# Altium schematic symbol library AX_Altium_v2.3.SchLib: 297 symbols (part 1 of 3)
Pins are listed as number, name and electrical type; pins without a type are passive.

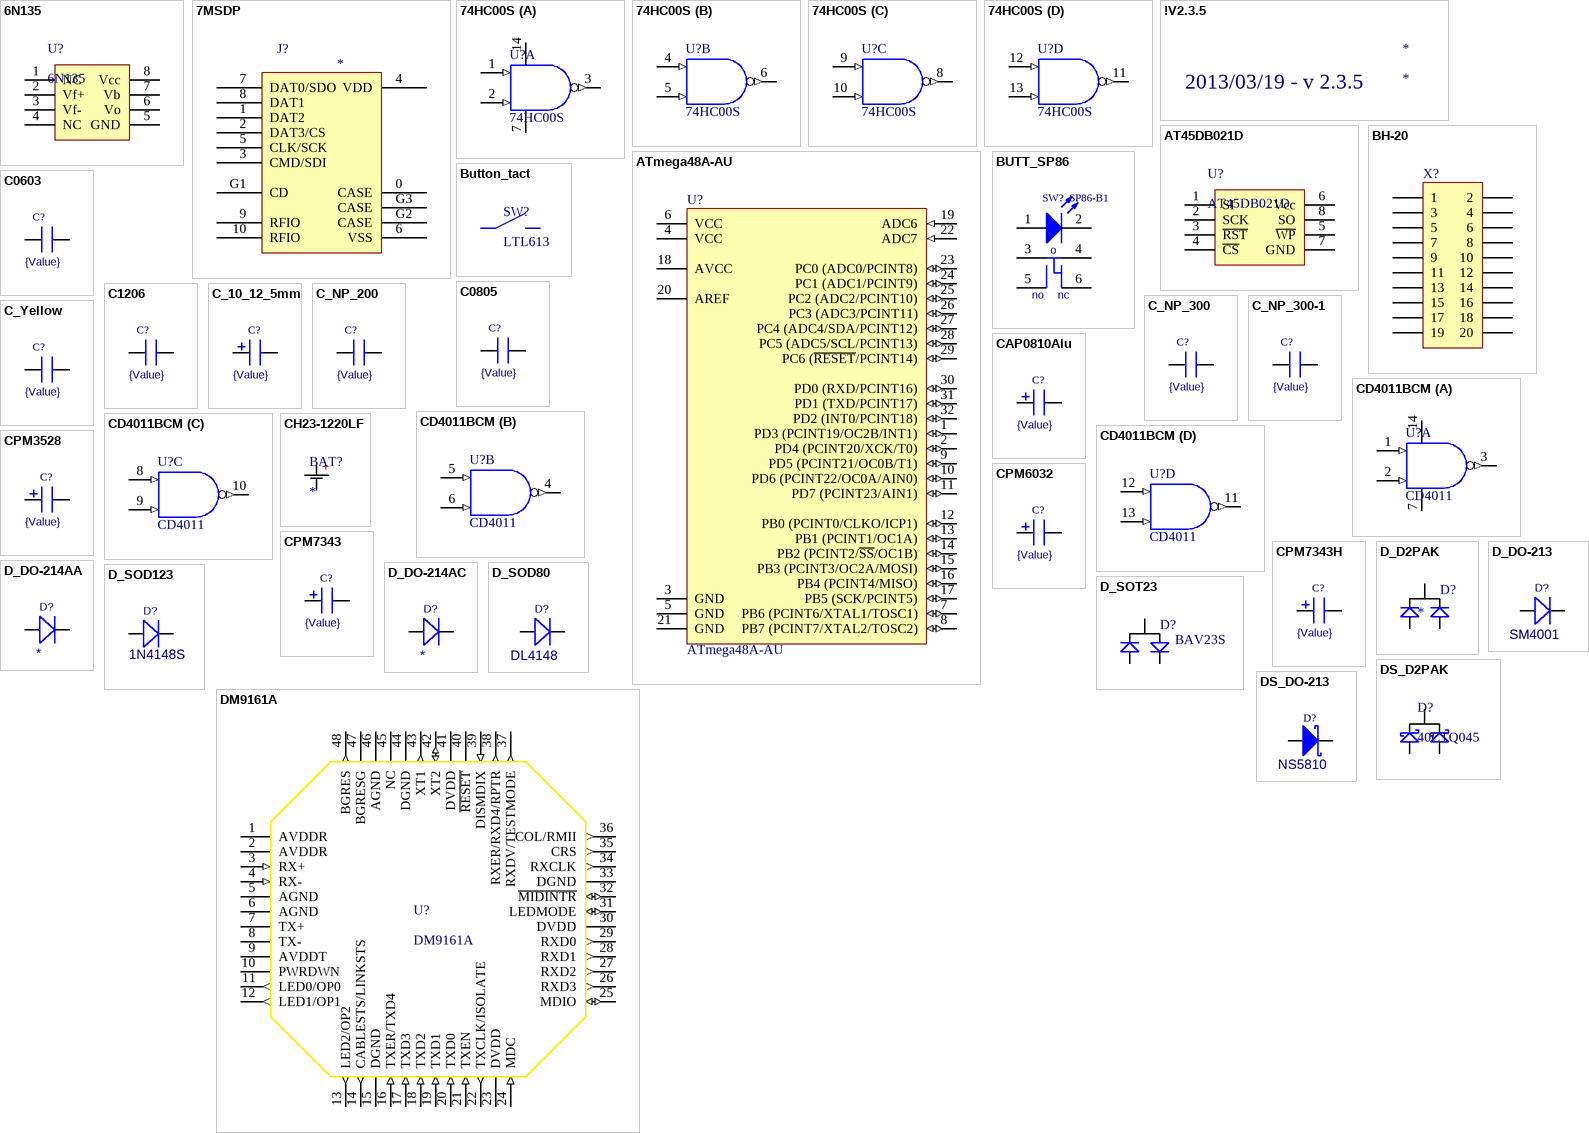
[diagram p0: symbols 6N135 to DS_DO-213]

## 6N135
designator U?
Optron
footprint DIP-8
pins: 1 NC, 2 Vf+ "Led+", 3 Vf- "LED-", 4 NC, 5 GND, 6 Vo "Collector", 7 Vb "Base", 8 Vcc

## 7MSDP
designator J?
SD-card slot
footprint 7MSDP (SD slot)
pins: 0 CASE, 1 DAT2, 2 DAT3/CS, 3 CMD/SDI, 4 VDD, 5 CLK/SCK, 6 VSS, 7 DAT0/SDO, 8 DAT1, 9 RFIO, 10 RFIO, G1 CD, G2 CASE, G3 CASE

## 74HC00S
designator U?
Quadruple 2-Input Positive-NAND Gate; Published: 8-Jun-2000; LatestRevisionDate: 13-Apr-2006; LatestRevisionNote: IPC-7351 Footprint Added.; DatasheetVersion: May-1997; PackageVersion: Jan-1998; PackageReference: D014; Publisher: Altium Limited; PackageDescription: 14-Pin Small Outline Integrated Circuit 1.27 mm Pitch; Code_IPC: SOIC127P600-14; ComponentLink1Description: Manufacturer Link; ComponentLink1URL: http://www.ti.com/; ComponentLink2Description: Datasheet; ComponentLink2URL: http://www-s.ti.com/sc/ds/sn74hc00.pdf
footprint SO-14 (14-Pin Small Outline Integrated Circuit 1.27 mm Pitch, IPC Medium Density)
footprint SO-14_L (14-Pin Small Outline Integrated Circuit 1.27 mm Pitch, IPC High Density)
footprint SO-14_M (14-Pin Small Outline Integrated Circuit 1.27 mm Pitch, IPC Low Density)
signal-integrity model SN74HC00D
part A pins: 1 A (in), 2 B (in), 3 Y (out), 7 GND (power), 14 VCC (power)
part B pins: 4 A (in), 5 B (in), 6 Y (out)
part C pins: 8 Y (out), 9 A (in), 10 B (in)
part D pins: 11 Y (out), 12 A (in), 13 B (in)

## !V2.3.5
designator *
text: 2013/03/19 - v 2.3.5

## AT45DB021D
designator U?
2Mbit memory IC
footprint SO-8 (SOIC, 8-Leads, Body 4.9x3.9mm, Pitch 1.27mm, IPC Medium Density)
pins: 1 SI "Serial Input", 2 SCK "Serial clock", 3 ~{RST} "Reset", 4 ~{CS} "Chip select", 5 ~{WP} "Write protect", 6 Vcc, 7 GND, 8 SO "Serial output"

## ATmega48A-AU
designator U?
8-bit AVR Microcontroller, 4KB Flash, 256 Bytes EEPROM, 512 Bytes SRAM, 32-pin TQFP, Industrial Grade (-40°C to 85°C); Published: 1-Apr-2010; DatasheetVersion: revA, Jan-2010; PackageVersion: revB, Oct-2001; PackageReference: 32A; Publisher: Altium Limited; PackageDescription: 32-Lead, 7x7x1.0 mm Body, 0.8mm Lead Pitch, Thin Profile Plastic Quad Flat Package (TQFP); Supplier 1: Digi-Key; Supplier Part Number 1: ATMEGA48A-AU-ND; Supplier 2: Mouser; Supplier Part Number 2: 556-ATMEGA48A-AU; Code_JEDEC: MS-026-ABA; ComponentLink1Description: Manufacturer Link; ComponentLink1URL: http://www.atmel.com/products/avr/default.asp?; ComponentLink2Description: ATmega48A/48PA/88A/88PA/168A/168PA/328/328P Datasheet; ComponentLink2URL: http://www.atmel.com/dyn/resources/prod_documents/8271.pdf; ComponentLink3Description: ATmega48A/48PA/88A/88PA/168A/168PA/328/328P Summary; ComponentLink3URL: http://www.atmel.com/dyn/resources/prod_documents/8271S.pdf; ComponentLink4Description: Atmel.com Home; ComponentLink4URL: http://www.atmel.com
footprint 32A (Thin QFP, 32-Leads, Body 7x7mm, Pitch 0.8mm, IPC Medium Density)
footprint 32A_L (Thin QFP, 32-Leads, Body 7x7mm, Pitch 0.8mm, IPC High Density)
footprint 32A_M (Thin QFP, 32-Leads, Body 7x7mm, Pitch 0.8mm, IPC Low Density)
pins: 1 PD3 (PCINT19/OC2B/INT1) (io), 2 PD4 (PCINT20/XCK/T0) (io), 3 GND (power), 4 VCC (power), 5 GND (power), 6 VCC (power), 7 PB6 (PCINT6/XTAL1/TOSC1) (io), 8 PB7 (PCINT7/XTAL2/TOSC2) (io), 9 PD5 (PCINT21/OC0B/T1) (io), 10 PD6 (PCINT22/OC0A/AIN0) (io), 11 PD7 (PCINT23/AIN1) (io), 12 PB0 (PCINT0/CLKO/ICP1) (io), 13 PB1 (PCINT1/OC1A) (io), 14 PB2 (PCINT2/~{SS}/OC1B) (io), 15 PB3 (PCINT3/OC2A/MOSI) (io), 16 PB4 (PCINT4/MISO) (io), 17 PB5 (SCK/PCINT5) (io), 18 AVCC (power), 19 ADC6 (in), 20 AREF, 21 GND (power), 22 ADC7 (in), 23 PC0 (ADC0/PCINT8) (io), 24 PC1 (ADC1/PCINT9) (io), 25 PC2 (ADC2/PCINT10) (io), 26 PC3 (ADC3/PCINT11) (io), 27 PC4 (ADC4/SDA/PCINT12) (io), 28 PC5 (ADC5/SCL/PCINT13) (io), 29 PC6 (~{RESET}/PCINT14) (io), 30 PD0 (RXD/PCINT16) (io), 31 PD1 (TXD/PCINT17) (io), 32 PD2 (INT0/PCINT18) (io)

## BH-20
designator X?, comment IDC-20MS(BH-20)  (value not drawn)
Header, 10-Pin, Dual row; LatestRevisionDate: 17-Jul-2002; LatestRevisionNote: Re-released for DXP Platform.; Publisher: Altium Limited
footprint BH-20 (Connector; Header; 10x2 Position)
pins: 1, 2, 3, 4, 5, 6, 7, 8, 9, 10, 11, 12, 13, 14, 15, 16, 17, 18, 19, 20

## BUTT_SP86
designator SW?, comment SP86-B1
Button
footprint BUTT_SP86
pins: 1, 2, 3, 4, 5, 6
text: o; no; nc

## Button_tact
designator SW?, comment LTL613
Tact button switch
footprint LTL613
pins: 0, 1

## C0603
designator C?, comment {Value}
Capacitor; Value: {Value}
footprint C_0603 (Chip Capacitor; Body 1.6 x 0.8 mm (LxW typ))
pins: 1, 2

## C0805
designator C?, comment {Value}
Capacitor; Value: {Value}
footprint C_0805
pins: 1, 2

## C1206
designator C?, comment {Value}
Capacitor; Value: {Value}
footprint C_1206
pins: 1, 2

## C_10_12_5mm
designator C?, comment {Value}
Capacitor; Value: {Value}
footprint CAP470X25V
pins: 1, 2

## C_NP_200
designator C?  value {Value}  (hidden comment: C_NP_200)
footprint Cap_HV 5
pins: 1, 2

## C_NP_300
designator C?  value {Value}  (hidden comment: C_NP_300)
footprint Cap_HV 10
pins: 1, 2

## C_NP_300-1
designator C?  value {Value}  (hidden comment: C_NP_300-1)
C_NP_300_NORM
footprint Cap_HV 3kV norm
pins: 1, 2

## C_Yellow
designator C?, comment {Value}
Funny yellow capacitor distributed with transformer; Value: {Value}
footprint Cap_yellow
pins: 0, 1

## CAP0810Alu
designator C?, comment {Value}
Capacitor; Value: {Value}
footprint Cap 0810 (Aluminum SMT 8.6x8.6x10mm cap)
pins: 1, 2

## CD4011BCM
designator U?, comment CD4011
Quad 2-Input NAND Buffered B series Gate, 14-Pin SOIC; IC_Technology: C; Published: 17-Jul-2002; LatestRevisionDate: 13-Apr-2006; LatestRevisionNote: IPC-7351 Footprint Added.; DatasheetVersion: Jan-1999; PackageVersion: 2000; PackageReference: M14A; Publisher: Altium Limited; PackageDescription: 14-Pin Small Outline Integrated Circuit 1.27 mm Pitch; Code_IPC: SOIC127P600-14; ComponentLink1Description: Manufacturer Link; ComponentLink1URL: http://www.fairchildsemi.com/; ComponentLink2Description: Datasheet; ComponentLink2URL: http://www.fairchildsemi.com/ds/CD%2FCD4001BC.pdf
footprint SO-14 (14-Pin Small Outline Integrated Circuit 1.27 mm Pitch, IPC Medium Density)
footprint SO-14_L (14-Pin Small Outline Integrated Circuit 1.27 mm Pitch, IPC High Density)
footprint SO-14_M (14-Pin Small Outline Integrated Circuit 1.27 mm Pitch, IPC Low Density)
part A pins: 1 A (in), 2 B (in), 3 J (out), 7 GND (power), 14 VDD (power)
part B pins: 4 J (out), 5 A (in), 6 B (in)
part C pins: 8 A (in), 9 F (in), 10 J (out)
part D pins: 11 J (out), 12 A (in), 13 B (in)

## CH23-1220LF
designator BAT?
Battery holder
footprint CH23-1220LF (1220 Battary holder)
pins: 0, 1

## CPM3528
designator C?, comment {Value}
Capacitor; Value: {Value}
footprint CPM3528
pins: 1, 2

## CPM6032
designator C?, comment {Value}
Capacitor; Value: {Value}
footprint CPM6032
pins: 1, 2

## CPM7343
designator C?, comment {Value}
Capacitor; Value: {Value}
footprint CPM7343
pins: 1, 2

## CPM7343H
designator C?, comment {Value}
Capacitor; Value: {Value}
footprint CPM7343H
pins: 1, 2

## D_D2PAK
designator D?
Diode
footprint D2PAK
pins: 1, 2, 3

## D_DO-213
designator D?, comment SM4001
Diode
footprint DIODE_DO-213AB
pins: 1 A, 2 K

## D_DO-214AA
designator D?
Diode
footprint DO-214AA
pins: 1 A, 2 K

## D_DO-214AC
designator D?
Diode
footprint DO-214AC
pins: 1 A, 2 K

## D_SOD80
designator D?, comment DL4148
Diode
footprint SOD80
pins: 1 A, 2 K

## D_SOD123
designator D?, comment 1N4148S
Diode
footprint SOD-123 (SOD-123; 2 Leads; Body 2.7 x 1.6 mm, (LxW))
pins: 1 A, 2 K

## D_SOT23
designator D?, comment BAV23S
Schematic for BAV23S diode
footprint SOT23
pins: 1, 2, 3

## DM9161A
designator U?
footprint TQFP48
pins: 1 AVDDR, 2 AVDDR, 3 RX+ (in), 4 RX- (in), 5 AGND, 6 AGND, 7 TX+, 8 TX-, 9 AVDDT, 10 PWRDWN, 11 LED0/OP0 (out), 12 LED1/OP1 (out), 13 LED2/OP2 (out), 14 CABLESTS/LINKSTS (out), 15 DGND, 16 TXER/TXD4 (in), 17 TXD3 (in), 18 TXD2 (in), 19 TXD1 (in), 20 TXD0 (in), 21 TXEN (in), 22 TXCLK/ISOLATE (out), 23 DVDD, 24 MDC (in), 25 MDIO (io), 26 RXD3 (out), 27 RXD2 (out), 28 RXD1 (out), 29 RXD0 (out), 30 DVDD, 31 LEDMODE (io), 32 ~{MIDINTR} (io), 33 DGND, 34 RXCLK (out), 35 CRS (out), 36 COL/RMII (out), 37 RXDV/TESTMODE (out), 38 RXER/RXD4/RPTR (out), 39 DISMDIX (in), 40 ~{RESET}, 41 DVDD, 42 XT2 (io), 43 XT1 (out), 44 DGND, 45 NC, 46 AGND, 47 BGRESG, 48 BGRES (out)

## DS_D2PAK
designator D?, comment 40CTQ045
Diode
footprint D2PAK
pins: 1, 2, 3

## DS_DO-213
designator D?, comment NS5810
Schottky Diode
footprint DIODE_DO-213AB
pins: 1 A, 2 K

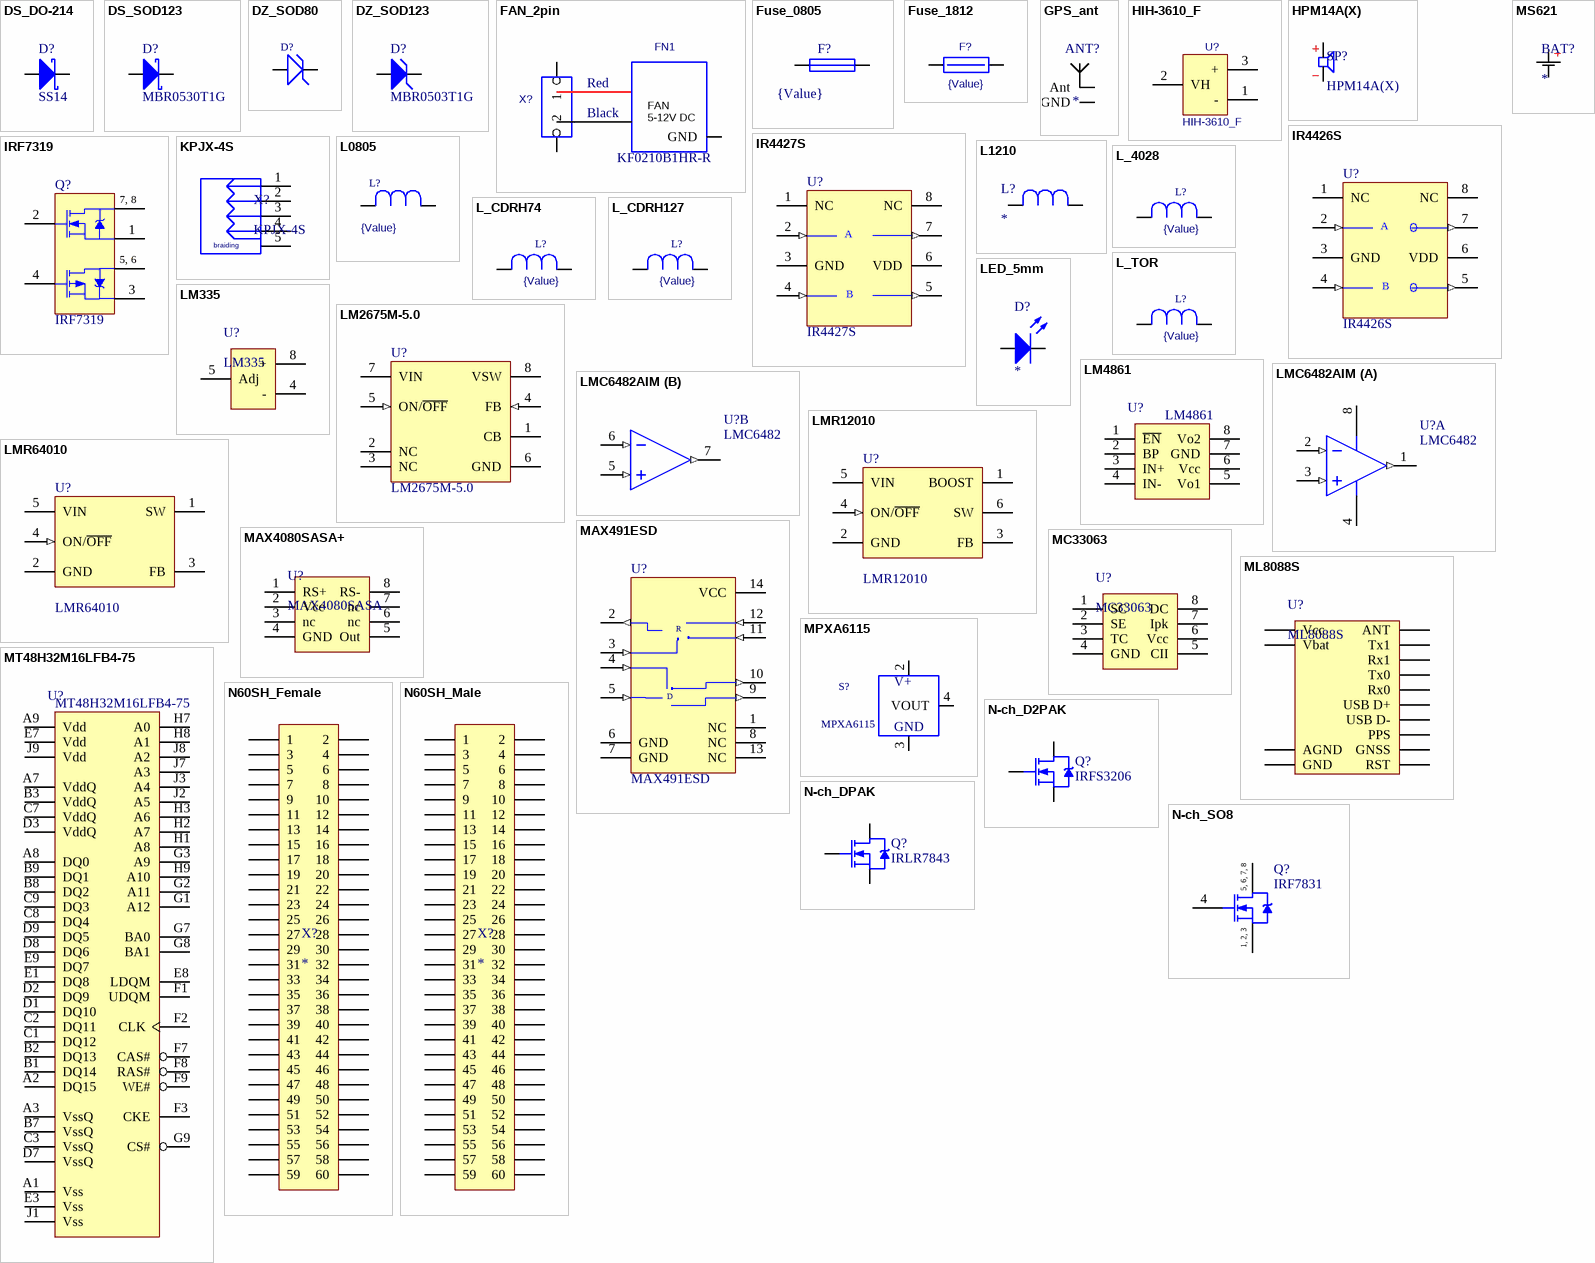
[diagram p1: symbols DS_DO-214 to N-ch_SO8]

## DS_DO-214
designator D?, comment SS14
Schottky Diode
footprint DO-214AC
pins: 1 A, 2 K

## DS_SOD123
designator D?, comment MBR0530T1G
Schottky Diode
footprint SOD-123 (SOD-123; 2 Leads; Body 2.7 x 1.6 mm, (LxW))
pins: 1 A, 2 K

## DZ_SOD80
designator D?, comment {Value}  (value not drawn)
Zener Diode
footprint SOD80C
pins: 1 A, 2 K

## DZ_SOD123
designator D?, comment MBR0503T1G
Surface Mount Zener Diode; Published: 8-Jun-2000; LatestRevisionDate: 17-Jul-2002; LatestRevisionNote: Re-released for DXP Platform.; DatasheetDocument: REV. L-2; PackageReference: SOD-123; Publisher: Altium Limited; ComponentLink1Description: Manufacturer Link; ComponentLink1URL: http://www.vishay.com/
footprint SOD-123 (SOD-123; 2 Leads; Body 2.7 x 1.6 mm, (LxW))
signal-integrity model BZT52C10
pins: 1 A, 2 K

## FAN_2pin
designator X?, comment KF0210B1HR-R
Fan; Value: KF0210B1HR-R
footprint KF0210B1HR-R (Fan KF0210B1HR-R)
footprint KF0210B1HR-R-63 (Fan KF0210B1HR-R sita)
pins: 0 GND, 1, 2
text: FN1; Red; Black; FAN / 5-12V DC

## Fuse_0805
designator F?, comment {Value}
Fuse; Value: {Value}
footprint Fuse_0805
pins: 1, 2

## Fuse_1812
designator F?, comment {Value}
Fuse; Value: {Value}
footprint FUSE_1812
pins: 1, 2

## GPS_ant
designator ANT?
Amt02 GPS antenna
footprint AMT02
pins: 1 Ant, 2 GND

## HIH-3610_F
designator U?
footprint TO-92SF
pins: 1 - "GND", 2 VH, 3 + "Vcc"

## HPM14A(X)
designator SP?
Speaker with (AX)/without (A) frequency grnerator
footprint Beeper_14x7.5
pins: 1 +, 2 -

## IR4426S
designator U?
Dual High-Speed 1.5A MOSFET Driver; Published: 16-Jan-2001; LatestRevisionDate: 13-Apr-2006; LatestRevisionNote: IPC-7351 Footprint Added.; DatasheetVersion: Mar-1993; PackageReference: NSO8; Publisher: Altium Limited; PackageDescription: 8-Pin Small Outline Integrated Circuit 1.27 mm Pitch; Code_JEDEC: MS-012-AA; Code_IPC: SOIC127P600-8; ComponentLink1Description: Manufacturer Link; ComponentLink1URL: http://www.maxim-ic.com/; ComponentLink2Description: Datasheet; ComponentLink2URL: http://pdfserv.maxim-ic.com/en/ds/MAX4426-MAX4428.pdf
footprint SO-8 (SOIC, 8-Leads, Body 4.9x3.9mm, Pitch 1.27mm, IPC Medium Density)
footprint SO-8_L (SOIC, 8-Leads, Body 4.9x3.9mm, Pitch 1.27mm, IPC High Density)
footprint SO-8_M (SOIC, 8-Leads, Body 4.9x3.9mm, Pitch 1.27mm, IPC Low Density)
pins: 1 NC, 2 INA (in), 3 GND (power), 4 INB (in), 5 ~{OUTB} (out), 6 VDD (power), 7 ~{OUTA} (out), 8 NC
text: A; B

## IR4427S
designator U?
Dual High-Speed 1.5A MOSFET Driver; Published: 16-Jan-2001; LatestRevisionDate: 13-Apr-2006; LatestRevisionNote: IPC-7351 Footprint Added.; DatasheetVersion: Mar-1993; PackageReference: NSO8; Publisher: Altium Limited; PackageDescription: 8-Pin Small Outline Integrated Circuit 1.27 mm Pitch; Code_JEDEC: MS-012-AA; Code_IPC: SOIC127P600-8; ComponentLink1Description: Manufacturer Link; ComponentLink1URL: http://www.maxim-ic.com/; ComponentLink2Description: Datasheet; ComponentLink2URL: http://pdfserv.maxim-ic.com/en/ds/MAX4426-MAX4428.pdf
footprint SO-8 (SOIC, 8-Leads, Body 4.9x3.9mm, Pitch 1.27mm, IPC Medium Density)
footprint SO-8_L (SOIC, 8-Leads, Body 4.9x3.9mm, Pitch 1.27mm, IPC High Density)
footprint SO-8_M (SOIC, 8-Leads, Body 4.9x3.9mm, Pitch 1.27mm, IPC Low Density)
pins: 1 NC, 2 INA (in), 3 GND (power), 4 INB (in), 5 OUTB (out), 6 VDD (power), 7 OUTA (out), 8 NC
text: A; B

## IRF7319
designator Q?
HEXFET Power MOSFET; Published: 8-Jun-2000; LatestRevisionDate: 13-Apr-2006; LatestRevisionNote: IPC-7351 Footprint Added.; DatasheetVersion: Sep-1997; PackageVersion: Feb-2001; PackageReference: SO-8; Publisher: Altium Limited; PackageDescription: 8-Pin Plastic Small Outline Integrated Circuit 1.27 mm Pitch; Code_JEDEC: MS-012-AA; Code_IPC: SOIC127P600-8; ComponentLink1Description: Manufacturer Link; ComponentLink1URL: http://www.irf.com/; ComponentLink2Description: Datasheet; ComponentLink2URL: http://www.irf.com/product-info/datasheets/data/IRFN140.pdf
footprint SO-8 (SOIC, 8-Leads, Body 4.9x3.9mm, Pitch 1.27mm, IPC Medium Density)
footprint SO-8_L (SOIC, 8-Leads, Body 4.9x3.9mm, Pitch 1.27mm, IPC High Density)
footprint SO-8_M (SOIC, 8-Leads, Body 4.9x3.9mm, Pitch 1.27mm, IPC Low Density)
pins: 1 S1, 2 G1, 3 S2, 4 G2, 5 D2, 6 D2, 7 D1, 8 D1
text: 7, 8; 5, 6

## KPJX-4S
designator X?
Power connector
footprint KPJX-4S
pins: 1, 2, 3, 4, 5
text: braiding

## L0805
designator L?, comment {Value}
Inductor; Value: {Value}
footprint L_0805 (Inductor Pattern)
pins: 1, 2

## L1210
designator L?
Inductor
footprint L_1210 (Chip Inductor, 2-Leads, Body 3,1x2,5mm, IPC Medium Density)
pins: 1, 2

## L_4028
designator L?, comment {Value}
Inductor; Value: {Value}
footprint L4028
pins: 1, 2

## L_CDRH74
designator L?, comment {Value}
Inductor; Value: {Value}
footprint CDRH74
pins: 1, 2

## L_CDRH127
designator L?, comment {Value}
Inductor; Value: {Value}
footprint CDRH127
pins: 1, 2

## L_TOR
designator L?, comment {Value}
Inductor; Value: {Value}
footprint L_TOR
pins: 1, 2

## LED_5mm
designator D?
Typical INFRARED GaAs LED; Value: *; Color: *
footprint LED_5mm
footprint LED_5mm_long
pins: 1 A, 2 K

## LM335
designator U?
Temperature sensor
footprint SO-8 (SOIC, 8-Leads, Body 4.9x3.9mm, Pitch 1.27mm, IPC Medium Density)
pins: 4 - "GND", 5 Adj, 8 + "Vcc"

## LM2675M-5.0
designator U?
SIMPLE SWITCHER® Power Converter High Efficiency 1A Step-Down Voltage Regulator, 8-pin Narrow SOIC; Manufacturer: National Semiconductor; PackageTopMarking: NSZXTT*2675*M5.0; PowerWise: N; Published: 4-Dec-2008; DatasheetVersion: Jun-2005; PackageVersion: revM, May-2009; PackageReference: M08A; Publisher: Altium Limited; PackageDescription: SOIC Narrow, 4.9 x 3.9 x 1.45mm, 8 Lead, 1.27mm Pitch; Supplier 1: Farnell; Supplier Part Number 1: 9489746; PartNumber: LM2675M-5.0; RoHS: N; PinCount: 8; CompType: Switcher; Code_JEDEC: MS-012-AA; Code_IPC: SOIC127P600-8; ComponentLink1Description: LM2675 Datasheet; ComponentLink1URL: http://www.national.com/ds/LM/LM2675.pdf; ComponentLink2Description: LM2675 Web Page; ComponentLink2URL: http://www.national.com/pf/LM/LM2675.html; ComponentLink3Description: M08A Package Page; ComponentLink3URL: http://www.national.com/packaging/folders/m08a.html
footprint SO-8 (SOIC, 8-Leads, Body 4.9x3.9mm, Pitch 1.27mm, IPC Medium Density)
footprint SO-8_L (SOIC, 8-Leads, Body 4.9x3.9mm, Pitch 1.27mm, IPC High Density)
footprint SO-8_M (SOIC, 8-Leads, Body 4.9x3.9mm, Pitch 1.27mm, IPC Low Density)
pins: 1 CB, 2 NC, 3 NC, 4 FB (in), 5 ON/~{OFF} (in), 6 GND (power), 7 VIN (power), 8 VSW (power)

## LM4861
designator U?
Audio amplifier 1W
footprint SO-8 (SOIC, 8-Leads, Body 4.9x3.9mm, Pitch 1.27mm, IPC Medium Density)
pins: 1 ~{EN} "Shutdown", 2 BP "Bypass", 3 IN+ "Positive input", 4 IN- "Negative input", 5 Vo1 "Output1", 6 Vcc, 7 GND, 8 Vo2 "Output2"

## LMC6482AIM
designator U?, comment LMC6482
CMOS Dual Rail-to-Rail Input and Output Operational Amplifier, 8-pin Narrow SOIC; PartNumber: LMC6482AIM; Manufacturer: National Semiconductor; PackageTopMarking: NSZXTT*LMC64*82AIM; PowerWise: N; CompType: Amplifiers; Published: 4-Dec-2008; LatestRevisionDate: 13-Jan-2009; LatestRevisionNote: Sim Model Added.; DatasheetVersion: Sep-2003; PackageVersion: revM, May-2009; PackageReference: M08A; Publisher: Altium Limited; PackageDescription: SOIC Narrow, 4.9 x 3.9 x 1.45mm, 8 Lead, 1.27mm Pitch; Supplier 1: Farnell; Supplier Part Number 1: 9494723; RoHS: N; PinCount: 8; Code_JEDEC: MS-012-AA; Code_IPC: SOIC127P600-8; ComponentLink1Description: LMC6482 Datasheet; ComponentLink1URL: http://www.national.com/ds/LM/LMC6482.pdf; ComponentLink2Description: LMC6482 Web Page; ComponentLink2URL: http://www.national.com/pf/LM/LMC6482.html; ComponentLink3Description: M08A Package Page; ComponentLink3URL: http://www.national.com/packaging/folders/m08a.html
footprint SO-8 (SOIC, 8-Leads, Body 4.9x3.9mm, Pitch 1.27mm, IPC Medium Density)
footprint SO-8_L (SOIC, 8-Leads, Body 4.9x3.9mm, Pitch 1.27mm, IPC High Density)
footprint SO-8_M (SOIC, 8-Leads, Body 4.9x3.9mm, Pitch 1.27mm, IPC Low Density)
part A pins: 1 OUTA (out), 2 INA- (in), 3 INA+ (in), 4 V- (power), 8 V+ (power)
part B pins: 5 INB+ (in), 6 INB- (in), 7 OUTB (out)

## LMR12010
designator U?
1.6MHz (X) and 3.0MHz (Y) Step-down in SOT23-6
footprint SOT23-6
pins: 1 BOOST, 2 GND (power), 3 FB, 4 ON/~{OFF} (in), 5 VIN (power), 6 SW (power)

## LMR64010
designator U?
1.6MHz Step-up in SOT23-5
footprint SOT23-5
pins: 1 SW (power), 2 GND (power), 3 FB, 4 ON/~{OFF} (in), 5 VIN (power)

## MAX491ESD
designator U?
Low-Power, Slew-Rate-Limited RS-485/RS-422 Transceiver; Published: 16-Jan-2001; LatestRevisionDate: 13-Apr-2006; LatestRevisionNote: IPC-7351 Footprint Added.; DatasheetVersion: Feb-1996; PackageReference: NSO14; Publisher: Altium Limited; PackageDescription: 14-Pin Small Outline Integrated Circuit 1.27 mm Pitch; Code_JEDEC: MS-012-AB; Code_IPC: SOIC127P600-14; ComponentLink1Description: Manufacturer Link; ComponentLink1URL: http://www.maxim-ic.com/; ComponentLink2Description: Datasheet; ComponentLink2URL: http://pdfserv.maxim-ic.com/en/ds/MAX1487-MAX491.pdf
footprint SO-14 (14-Pin Small Outline Integrated Circuit 1.27 mm Pitch, IPC Medium Density)
footprint SO-14_L (14-Pin Small Outline Integrated Circuit 1.27 mm Pitch, IPC High Density)
footprint SO-14_M (14-Pin Small Outline Integrated Circuit 1.27 mm Pitch, IPC Low Density)
pins: 1 NC, 2 RO (out), 3 ~{RE} (in), 4 DE (in), 5 DI (in), 6 GND (power), 7 GND (power), 8 NC, 9 Y (out), 10 Z (out), 11 B (in), 12 A (in), 13 NC, 14 VCC (power)
text: R; D

## MAX4080SASA+
designator U?, comment MAX4080SASA
Current-Sense Amplifier with  Voltage Output
footprint SO-8 (SOIC, 8-Leads, Body 4.9x3.9mm, Pitch 1.27mm, IPC Medium Density)
pins: 1 RS+, 2 Vcc, 3 nc, 4 GND, 5 Out, 6 nc, 7 nc, 8 RS-

## MC33063
designator U?
Step-up/down IC
footprint SO-8 (SOIC, 8-Leads, Body 4.9x3.9mm, Pitch 1.27mm, IPC Medium Density)
pins: 1 SC "Switch Collector", 2 SE "Switch Emitter", 3 TC "Timing capacitor", 4 GND, 5 CII "Comparator Inverting Input", 6 Vcc, 7 Ipk "Ipk Sense", 8 DC "Driver Collector"

## ML8088S
designator U?
Glonass/GPS receiver
footprint ML8088S
pins: 1 Rx0, 2 Tx0, 3 PPS, 4 Tx1, 5 Rx1, 8 GNSS, 12 Vbat, 13 Vcc, 15 USB D+, 16 USB D-, 18 RST, 21 ANT, AGND, GND

## MPXA6115
designator S?
footprint MPXA_SOP
pins: 1 hidden, 2 VS, 3 GND, 4 VOUT, 5 hidden, 6 hidden, 7 hidden, 8 hidden
text: V+

## MS621
designator BAT?
Battery
footprint MS621 (Micro Li-ion rechargable battery)
pins: 0, 1

## MT48H32M16LFB4-75
designator U?
32Mx16 Memory
footprint 54-VFBGA
pins: A1 Vss (power) "Ground", A2 DQ15 "Data I/O", A3 VssQ (power) "Ground-low noise", A7 VddQ (power) "Supply-low noise", A8 DQ0 "Data I/O", A9 Vdd (power) "Supply", B1 DQ14 "Data I/O", B2 DQ13 "Data I/O", B3 VddQ (power) "Supply-low noise", B7 VssQ (power) "Ground-low noise", B8 DQ2 "Data I/O", B9 DQ1 "Data I/O", C1 DQ12 "Data I/O", C2 DQ11 "Data I/O", C3 VssQ (power) "Ground-low noise", C7 VddQ (power) "Supply-low noise", C8 DQ4 "Data I/O", C9 DQ3 "Data I/O", D1 DQ10 "Data I/O", D2 DQ9 "Data I/O", D3 VddQ (power) "Supply-low noise", D7 VssQ (power) "Ground-low noise", D8 DQ6 "Data I/O", D9 DQ5 "Data I/O", E1 DQ8 "Data I/O", E3 Vss (power) "Ground", E7 Vdd (power) "Supply", E8 LDQM "I/O Mask", E9 DQ7 "Data I/O", F1 UDQM "I/O Mask", F2 CLK "Clock", F3 CKE "Clock enable", F7 CAS# "Command", F8 RAS# "Command", F9 WE# "Command", G1 A12 "Address input", G2 A11 "Address input", G3 A9 "Address input", G7 BA0 "Bank address input", G8 BA1 "Bank address input", G9 CS# "Chip select", H1 A8 "Address input", H2 A7 "Address input", H3 A6 "Address input", H7 A0 "Address input", H8 A1 "Address input", H9 A10 "Address input", J1 Vss (power) "Ground", J2 A5 "Address input", J3 A4 "Address input", J7 A3 "Address input", J8 A2 "Address input", J9 Vdd (power) "Supply"

## N60SH_Female
designator X?
footprint N60SH_Female (Netus, 60-Leads, Body 25,6x3,3mm (max), Pitch 0,80mm, IPC Medium Density)
pins: 1, 2, 3, 4, 5, 6, 7, 8, 9, 10, 11, 12, 13, 14, 15, 16, 17, 18, 19, 20, 21, 22, 23, 24, 25, 26, 27, 28, 29, 30, 31, 32, 33, 34, 35, 36, 37, 38, 39, 40, 41, 42, 43, 44, 45, 46, 47, 48, 49, 50, 51, 52, 53, 54, 55, 56, 57, 58, 59, 60

## N60SH_Male
designator X?
footprint N60SH_Male (Netus, 60-Leads, Body 25,6x3,3mm (max), Pitch 0,80mm, IPC Medium Density)
pins: 1, 2, 3, 4, 5, 6, 7, 8, 9, 10, 11, 12, 13, 14, 15, 16, 17, 18, 19, 20, 21, 22, 23, 24, 25, 26, 27, 28, 29, 30, 31, 32, 33, 34, 35, 36, 37, 38, 39, 40, 41, 42, 43, 44, 45, 46, 47, 48, 49, 50, 51, 52, 53, 54, 55, 56, 57, 58, 59, 60

## N-ch_D2PAK
designator Q?, comment IRFS3206
HEXFET Power MOSFET; Published: 17-Sep-2003; LatestRevisionDate: 20-Nov-2009; LatestRevisionNote: IPC-7351 Footprint Added.; DatasheetVersion: 2-Jan-2002; PackageReference: D2PAK; Publisher: Altium Limited; PackageDescription: 3-Pin Transistor Outline Package 2.54 mm Pitch, 15.1 mm Lead Span; ComponentLink1Description: Manufacturer Link; ComponentLink1URL: http://www.irf.com/; ComponentLink2Description: Datasheet; ComponentLink2URL: http://www.irf.com/product-info/datasheets/data/irl3713.pdf
footprint D2PAK
pins: 1 G, 2 D, 3 S

## N-ch_DPAK
designator Q?, comment IRLR7843
HEXFET Power MOSFET; Published: 17-Sep-2003; LatestRevisionDate: 20-Nov-2009; LatestRevisionNote: IPC-7351 Footprint Added.; DatasheetVersion: 2-Jan-2002; PackageReference: D2PAK; Publisher: Altium Limited; PackageDescription: 3-Pin Transistor Outline Package 2.54 mm Pitch, 15.1 mm Lead Span; ComponentLink1Description: Manufacturer Link; ComponentLink1URL: http://www.irf.com/; ComponentLink2Description: Datasheet; ComponentLink2URL: http://www.irf.com/product-info/datasheets/data/irl3713.pdf
footprint TO252AA
pins: 1 G, 2 D, 3 S

## N-ch_SO8
designator Q?, comment IRF7831
HEXFET Power MOSFET; Published: 17-Sep-2003; LatestRevisionDate: 13-Apr-2006; LatestRevisionNote: IPC-7351 Footprint Added.; DatasheetVersion: 10-Oct-2000; PackageVersion: Feb-2001; PackageReference: SO-8; Publisher: Altium Limited; PackageDescription: 8-Pin Plastic Small Outline Integrated Circuit 1.27 mm Pitch; Code_JEDEC: MS-012-AA; Code_IPC: SOIC127P600-8; ComponentLink1Description: Manufacturer Link; ComponentLink1URL: http://www.irf.com/; ComponentLink2Description: Datasheet; ComponentLink2URL: http://www.irf.com/product-info/datasheets/data/irf7805.pdf
footprint SO-8 (SOIC, 8-Leads, Body 4.9x3.9mm, Pitch 1.27mm, IPC Medium Density)
footprint SO-8_L (SOIC, 8-Leads, Body 4.9x3.9mm, Pitch 1.27mm, IPC High Density)
footprint SO-8_M (SOIC, 8-Leads, Body 4.9x3.9mm, Pitch 1.27mm, IPC Low Density)
pins: 1 S, 2 S, 3 S, 4 G, 5 D, 6 D, 7 D, 8 D
text: 5, 6, 7, 8; 1, 2, 3

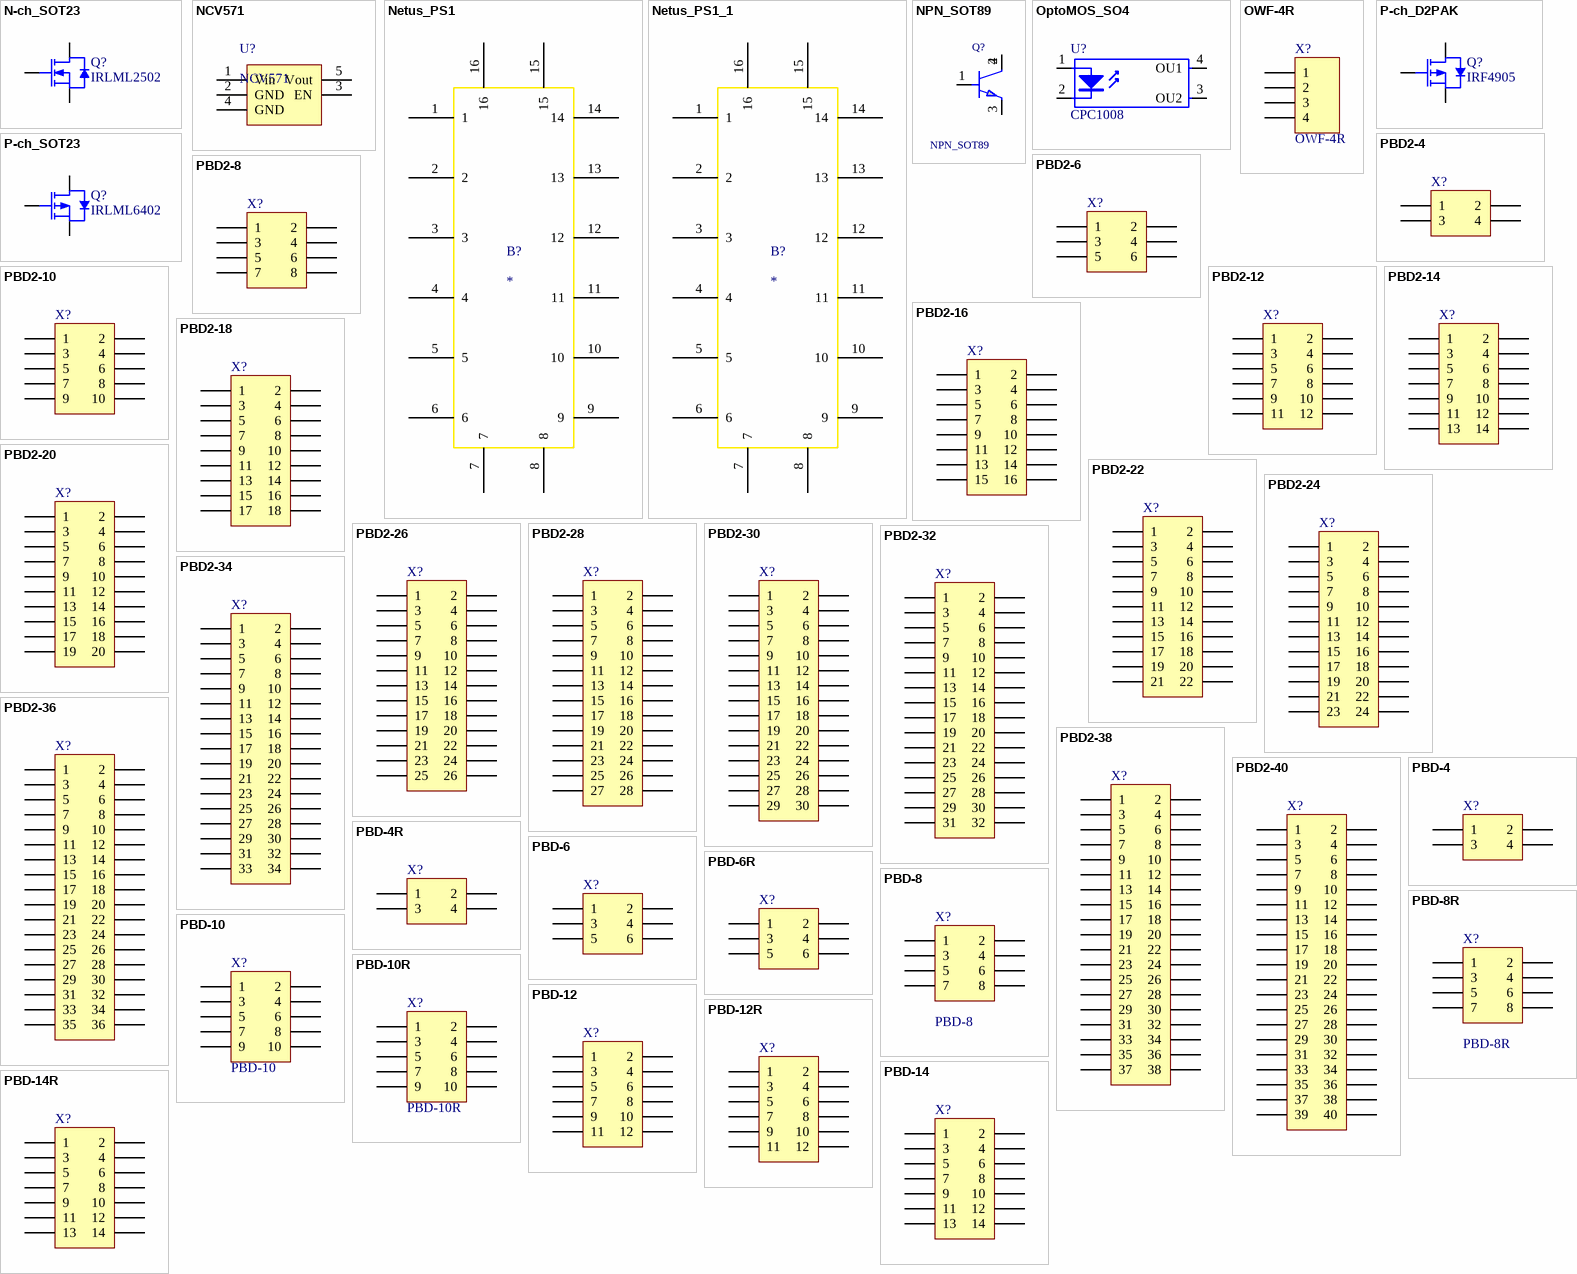
[diagram p2: symbols N-ch_SOT23 to PBD-14R]

## N-ch_SOT23
designator Q?, comment IRLML2502
N-Channel Enhancement Mode MOSFET; Published: 17-Dec-2003; DatasheetVersion: May-99; PackageVersion: 1996; PackageReference: SOT23; Publisher: Altium Limited; PackageDescription: SOT-23; 3 Leads; Body 3.1 x 2.5 mm, inc. leads (LxW max), Alternate Lead Configuration; ComponentLink1Description: Manufacturer Link; ComponentLink1URL: http://www.zetex.com/; ComponentLink2Description: Datasheet; ComponentLink2URL: www.zetex.com/3.0/pdf/ZXM61N02F.pdf
footprint SOT23
pins: 1 G, 2 S, 3 D

## NCV571
designator U?
ultra low power automotive power supply
footprint TSOP-5
pins: 1 Vin "Voltage input", 2 GND "Switch Emitter", 3 EN "Enable", 4 GND "Timing capacitor", 5 Vout "Voltage output"

## Netus_PS1
designator B?
Module PS_v1.0
footprint Netus_PS1
pins: 1, 2, 3, 4, 5, 6, 7, 8, 9, 10, 11, 12, 13, 14, 15, 16

## Netus_PS1_1
designator B?
Module PS_v1.1
footprint Netus_PS1_1 (Module PS_v1.1)
pins: 1, 2, 3, 4, 5, 6, 7, 8, 9, 10, 11, 12, 13, 14, 15, 16

## NPN_SOT89
designator Q?
footprint SOT89
pins: 1, 2, 3, 4

## OptoMOS_SO4
designator U?, comment CPC1008
4-Pin Phototransistor Optocoupler; Published: 24-Mar-1999; LatestRevisionDate: 04-Mar-2005; LatestRevisionNote: Sch pins 3 & 4 Swapped.; DatasheetVersion: Nov-2003; PackageReference: SO-4; Publisher: Altium Limited
footprint SO4_2_54 (S0-4)
pins: 1 A "Anode", 2 K "Cathode", 3 OU2 "Emitter", 4 OU1 "Collector"

## OWF-4R
designator X?
Header, 4-Pin; LatestRevisionDate: 17-Jul-2002; LatestRevisionNote: Re-released for DXP Platform.; Publisher: Altium Limited
footprint OWF-4R (3A Power connector)
pins: 1, 2, 3, 4

## P-ch_D2PAK
designator Q?, comment IRF4905
HEXFET Power MOSFET; Published: 17-Dec-2003; DatasheetVersion: Jul-99; PackageVersion: 1996; PackageReference: SOT23; Publisher: Altium Limited; PackageDescription: SOT-23; 3 Leads; Body 3.1 x 2.5 mm, inc. leads (LxW max), Alternate Lead Configuration; ComponentLink1Description: Manufacturer Link; ComponentLink1URL: http://www.zetex.com/; ComponentLink2Description: Datasheet; ComponentLink2URL: www.zetex.com/3.0/pdf/ZXM61P02F.pdf
footprint D2PAK
pins: 1 G, 2 D, 3 S

## P-ch_SOT23
designator Q?, comment IRLML6402
20V P-Channel Enhancement Mode MOSFET; Published: 17-Dec-2003; DatasheetVersion: Jul-99; PackageVersion: 1996; PackageReference: SOT23; Publisher: Altium Limited; PackageDescription: SOT-23; 3 Leads; Body 3.1 x 2.5 mm, inc. leads (LxW max), Alternate Lead Configuration; ComponentLink1Description: Manufacturer Link; ComponentLink1URL: http://www.zetex.com/; ComponentLink2Description: Datasheet; ComponentLink2URL: www.zetex.com/3.0/pdf/ZXM61P02F.pdf
footprint SOT23
pins: 1 G, 2 S, 3 D

## PBD2-4
designator X?  (value not drawn)
Header, 2-Pin, Dual row; LatestRevisionDate: 17-Jul-2002; LatestRevisionNote: Re-released for DXP Platform.; Publisher: Altium Limited
footprint PBD-4-2 (Connector; Header; 2x2 Position)
footprint PXD-4-2 (Connector; Header; 2x2 Position)
pins: 1, 2, 3, 4

## PBD2-6
designator X?  (value not drawn)
Header, 3-Pin, Dual row; LatestRevisionDate: 17-Jul-2002; LatestRevisionNote: Re-released for DXP Platform.; Publisher: Altium Limited
footprint PBD-6-2 (Connector; Header; 3x2 Position)
footprint PXD-6-2 (Connector; Header; 3x2 Position)
pins: 1, 2, 3, 4, 5, 6

## PBD2-8
designator X?  (value not drawn)
Header, 4-Pin, Dual row
footprint PBD-8-2 (Connector; Header; 4x2 Position)
footprint PXD-8-2 (Connector; Header; 4x2 Position)
pins: 1, 2, 3, 4, 5, 6, 7, 8

## PBD2-10
designator X?  (value not drawn)
Header, 5-Pin, Dual row
footprint PBD-10-2 (Connector; Header; 5x2 Position)
footprint PXD-10-2 (Connector; Header; 5x2 Position)
pins: 1, 2, 3, 4, 5, 6, 7, 8, 9, 10

## PBD2-12
designator X?  (value not drawn)
Header, 6-Pin, Dual row; LatestRevisionDate: 17-Jul-2002; LatestRevisionNote: Re-released for DXP Platform.; Publisher: Altium Limited
footprint PBD-12-2 (Connector; Header; 6x2 Position)
footprint PXD-12-2 (Connector; Header; 6x2 Position)
pins: 1, 2, 3, 4, 5, 6, 7, 8, 9, 10, 11, 12

## PBD2-14
designator X?  (value not drawn)
Header, 7-Pin, Dual row; LatestRevisionDate: 17-Jul-2002; LatestRevisionNote: Re-released for DXP Platform.; Publisher: Altium Limited
footprint PBD-14-2 (Connector; Header; 7x2 Position)
footprint PXD-14-2 (Connector; Header; 7x2 Position)
pins: 1, 2, 3, 4, 5, 6, 7, 8, 9, 10, 11, 12, 13, 14

## PBD2-16
designator X?  (value not drawn)
Header, 8-Pin, Dual row; LatestRevisionDate: 17-Jul-2002; LatestRevisionNote: Re-released for DXP Platform.; Publisher: Altium Limited
footprint PBD-16-2 (Connector; Header; 8x2 Position)
footprint PXD-16-2 (Connector; Header; 8x2 Position)
pins: 1, 2, 3, 4, 5, 6, 7, 8, 9, 10, 11, 12, 13, 14, 15, 16

## PBD2-18
designator X?  (value not drawn)
Header, 9-Pin, Dual row; LatestRevisionDate: 17-Jul-2002; LatestRevisionNote: Re-released for DXP Platform.; Publisher: Altium Limited
footprint PBD-18-2 (Connector; Header; 9x2 Position)
footprint PXD-18-2 (Connector; Header; 9x2 Position)
pins: 1, 2, 3, 4, 5, 6, 7, 8, 9, 10, 11, 12, 13, 14, 15, 16, 17, 18

## PBD2-20
designator X?  (value not drawn)
Header, 10-Pin, Dual row; LatestRevisionDate: 17-Jul-2002; LatestRevisionNote: Re-released for DXP Platform.; Publisher: Altium Limited
footprint PBD-20-2 (Connector; Header; 10x2 Position)
footprint PXD-20-2 (Connector; Header; 10x2 Position)
pins: 1, 2, 3, 4, 5, 6, 7, 8, 9, 10, 11, 12, 13, 14, 15, 16, 17, 18, 19, 20

## PBD2-22
designator X?  (value not drawn)
Header, 11-Pin, Dual row; LatestRevisionDate: 17-Jul-2002; LatestRevisionNote: Re-released for DXP Platform.; Publisher: Altium Limited
footprint PBD-22-2 (Connector; Header; 11x2 Position)
footprint PXD-22-2 (Connector; Header; 11x2 Position)
pins: 1, 2, 3, 4, 5, 6, 7, 8, 9, 10, 11, 12, 13, 14, 15, 16, 17, 18, 19, 20, 21, 22

## PBD2-24
designator X?  (value not drawn)
Header, 12-Pin, Dual row; LatestRevisionDate: 17-Jul-2002; LatestRevisionNote: Re-released for DXP Platform.; Publisher: Altium Limited
footprint pbd-24-2 (Connector; Header; 12x2 Position)
footprint pxd-24-2 (Connector; Header; 12x2 Position)
pins: 1, 2, 3, 4, 5, 6, 7, 8, 9, 10, 11, 12, 13, 14, 15, 16, 17, 18, 19, 20, 21, 22, 23, 24

## PBD2-26
designator X?  (value not drawn)
Header, 13-Pin, Dual row; LatestRevisionDate: 17-Jul-2002; LatestRevisionNote: Re-released for DXP Platform.; Publisher: Altium Limited
footprint PBD-26-2 (Connector; Header; 13x2 Position)
footprint PXD-26-2 (Connector; Header; 13x2 Position)
pins: 1, 2, 3, 4, 5, 6, 7, 8, 9, 10, 11, 12, 13, 14, 15, 16, 17, 18, 19, 20, 21, 22, 23, 24, 25, 26

## PBD2-28
designator X?  (value not drawn)
Header, 14-Pin, Dual row; LatestRevisionDate: 17-Jul-2002; LatestRevisionNote: Re-released for DXP Platform.; Publisher: Altium Limited
footprint PBD-28-2 (Connector; Header; 14x2 Position)
footprint PXD-28-2 (Connector; Header; 14x2 Position)
pins: 1, 2, 3, 4, 5, 6, 7, 8, 9, 10, 11, 12, 13, 14, 15, 16, 17, 18, 19, 20, 21, 22, 23, 24, 25, 26, 27, 28

## PBD2-30
designator X?  (value not drawn)
Header, 15-Pin, Dual row; LatestRevisionDate: 17-Jul-2002; LatestRevisionNote: Re-released for DXP Platform.; Publisher: Altium Limited
footprint PBD-30-2 (Connector; Header; 15x2 Position)
footprint PXD-30-2 (Connector; Header; 15x2 Position)
pins: 1, 2, 3, 4, 5, 6, 7, 8, 9, 10, 11, 12, 13, 14, 15, 16, 17, 18, 19, 20, 21, 22, 23, 24, 25, 26, 27, 28, 29, 30

## PBD2-32
designator X?  (value not drawn)
Header, 16-Pin, Dual row; LatestRevisionDate: 17-Jul-2002; LatestRevisionNote: Re-released for DXP Platform.; Publisher: Altium Limited
footprint PBD-32-2 (Connector; Header; 16x2 Position)
footprint PXD-32-2 (Connector; Header; 16x2 Position)
pins: 1, 2, 3, 4, 5, 6, 7, 8, 9, 10, 11, 12, 13, 14, 15, 16, 17, 18, 19, 20, 21, 22, 23, 24, 25, 26, 27, 28, 29, 30, 31, 32

## PBD2-34
designator X?  (value not drawn)
Header, 17-Pin, Dual row; LatestRevisionDate: 17-Jul-2002; LatestRevisionNote: Re-released for DXP Platform.; Publisher: Altium Limited
footprint PBD-34-2 (Connector; Header; 17x2 Position)
footprint PXD-34-2 (Connector; Header; 17x2 Position)
pins: 1, 2, 3, 4, 5, 6, 7, 8, 9, 10, 11, 12, 13, 14, 15, 16, 17, 18, 19, 20, 21, 22, 23, 24, 25, 26, 27, 28, 29, 30, 31, 32, 33, 34

## PBD2-36
designator X?  (value not drawn)
Header, 18-Pin, Dual row; LatestRevisionDate: 17-Jul-2002; LatestRevisionNote: Re-released for DXP Platform.; Publisher: Altium Limited
footprint PBD-36-2 (Connector; Header; 18x2 Position)
footprint PXD-36-2 (Connector; Header; 18x2 Position)
pins: 1, 2, 3, 4, 5, 6, 7, 8, 9, 10, 11, 12, 13, 14, 15, 16, 17, 18, 19, 20, 21, 22, 23, 24, 25, 26, 27, 28, 29, 30, 31, 32, 33, 34, 35, 36

## PBD2-38
designator X?  (value not drawn)
Header, 19-Pin, Dual row; LatestRevisionDate: 17-Jul-2002; LatestRevisionNote: Re-released for DXP Platform.; Publisher: Altium Limited
footprint PBD-38-2 (Connector; Header; 19x2 Position)
footprint PXD-38-2 (Connector; Header; 19x2 Position)
pins: 1, 2, 3, 4, 5, 6, 7, 8, 9, 10, 11, 12, 13, 14, 15, 16, 17, 18, 19, 20, 21, 22, 23, 24, 25, 26, 27, 28, 29, 30, 31, 32, 33, 34, 35, 36, 37, 38

## PBD2-40
designator X?  (value not drawn)
Header, 20-Pin, Dual row; LatestRevisionDate: 17-Jul-2002; LatestRevisionNote: Re-released for DXP Platform.; Publisher: Altium Limited
footprint PBD-40-2 (Connector; Header; 20x2 Position)
footprint PXD-40-2 (Connector; Header; 20x2 Position)
pins: 1, 2, 3, 4, 5, 6, 7, 8, 9, 10, 11, 12, 13, 14, 15, 16, 17, 18, 19, 20, 21, 22, 23, 24, 25, 26, 27, 28, 29, 30, 31, 32, 33, 34, 35, 36, 37, 38, 39, 40

## PBD-4
designator X?  (value not drawn)
Header, 2-Pin, Dual row; LatestRevisionDate: 17-Jul-2002; LatestRevisionNote: Re-released for DXP Platform.; Publisher: Altium Limited
footprint PBD-4-3D (Connector; Header; 2x2 Position)
footprint PXD-4 (Connector; Header; 2x2 Position)
pins: 1, 2, 3, 4

## PBD-4R
designator X?  (value not drawn)
Header, 2-Pin, Dual row; LatestRevisionDate: 17-Jul-2002; LatestRevisionNote: Re-released for DXP Platform.; Publisher: Altium Limited
footprint PBD-4RR (Connector; Header; 2x2 Position)
footprint PBD-4RL (Connector; Header; 2x2 Position)
pins: 1, 2, 3, 4

## PBD-6
designator X?  (value not drawn)
Header, 3-Pin, Dual row; LatestRevisionDate: 17-Jul-2002; LatestRevisionNote: Re-released for DXP Platform.; Publisher: Altium Limited
footprint PBD-6-3D (Connector; Header; 3x2 Position)
footprint PXD-6 (Connector; Header; 3x2 Position)
pins: 1, 2, 3, 4, 5, 6

## PBD-6R
designator X?  (value not drawn)
Header, 3-Pin, Dual row; LatestRevisionDate: 17-Jul-2002; LatestRevisionNote: Re-released for DXP Platform.; Publisher: Altium Limited
footprint PBD-6RR (Connector; Header; 3x2 Position)
footprint PBD-6RL (Connector; Header; 3x2 Position)
pins: 1, 2, 3, 4, 5, 6

## PBD-8
designator X?
Header, 4-Pin, Dual row
footprint PBD-8-3D (Connector; Header; 4x2 Position)
footprint PXD-8 (Connector; Header; 4x2 Position)
pins: 1, 2, 3, 4, 5, 6, 7, 8

## PBD-8R
designator X?
Header, 4-Pin, Dual row
footprint PBD-8RR (Connector; Header; 4x2 Position)
footprint PBD-8RL (Connector; Header; 4x2 Position)
pins: 1, 2, 3, 4, 5, 6, 7, 8

## PBD-10
designator X?
Header, 5-Pin, Dual row
footprint PBD-10-3D (Connector; Header; 5x2 Position)
footprint PXD-10 (Connector; Header; 5x2 Position)
pins: 1, 2, 3, 4, 5, 6, 7, 8, 9, 10

## PBD-10R
designator X?
Header, 5-Pin, Dual row
footprint PBD-10RR (Connector; Header; 5x2 Position)
footprint PBD-10RL (Connector; Header; 5x2 Position)
pins: 1, 2, 3, 4, 5, 6, 7, 8, 9, 10

## PBD-12
designator X?  (value not drawn)
Header, 6-Pin, Dual row; LatestRevisionDate: 17-Jul-2002; LatestRevisionNote: Re-released for DXP Platform.; Publisher: Altium Limited
footprint PBD-12-3D (Connector; Header; 6x2 Position)
footprint PXD-12 (Connector; Header; 6x2 Position)
pins: 1, 2, 3, 4, 5, 6, 7, 8, 9, 10, 11, 12

## PBD-12R
designator X?  (value not drawn)
Header, 6-Pin, Dual row; LatestRevisionDate: 17-Jul-2002; LatestRevisionNote: Re-released for DXP Platform.; Publisher: Altium Limited
footprint PBD-12RR (Connector; Header; 6x2 Position)
footprint PBD-12RL (Connector; Header; 6x2 Position)
pins: 1, 2, 3, 4, 5, 6, 7, 8, 9, 10, 11, 12

## PBD-14
designator X?  (value not drawn)
Header, 7-Pin, Dual row; LatestRevisionDate: 17-Jul-2002; LatestRevisionNote: Re-released for DXP Platform.; Publisher: Altium Limited
footprint PBD-14-3D (Connector; Header; 7x2 Position)
footprint PXD-14 (Connector; Header; 7x2 Position)
pins: 1, 2, 3, 4, 5, 6, 7, 8, 9, 10, 11, 12, 13, 14

## PBD-14R
designator X?  (value not drawn)
Header, 7-Pin, Dual row; LatestRevisionDate: 17-Jul-2002; LatestRevisionNote: Re-released for DXP Platform.; Publisher: Altium Limited
footprint PBD-14RR (Connector; Header; 7x2 Position)
footprint PBD-14RL (Connector; Header; 7x2 Position)
pins: 1, 2, 3, 4, 5, 6, 7, 8, 9, 10, 11, 12, 13, 14

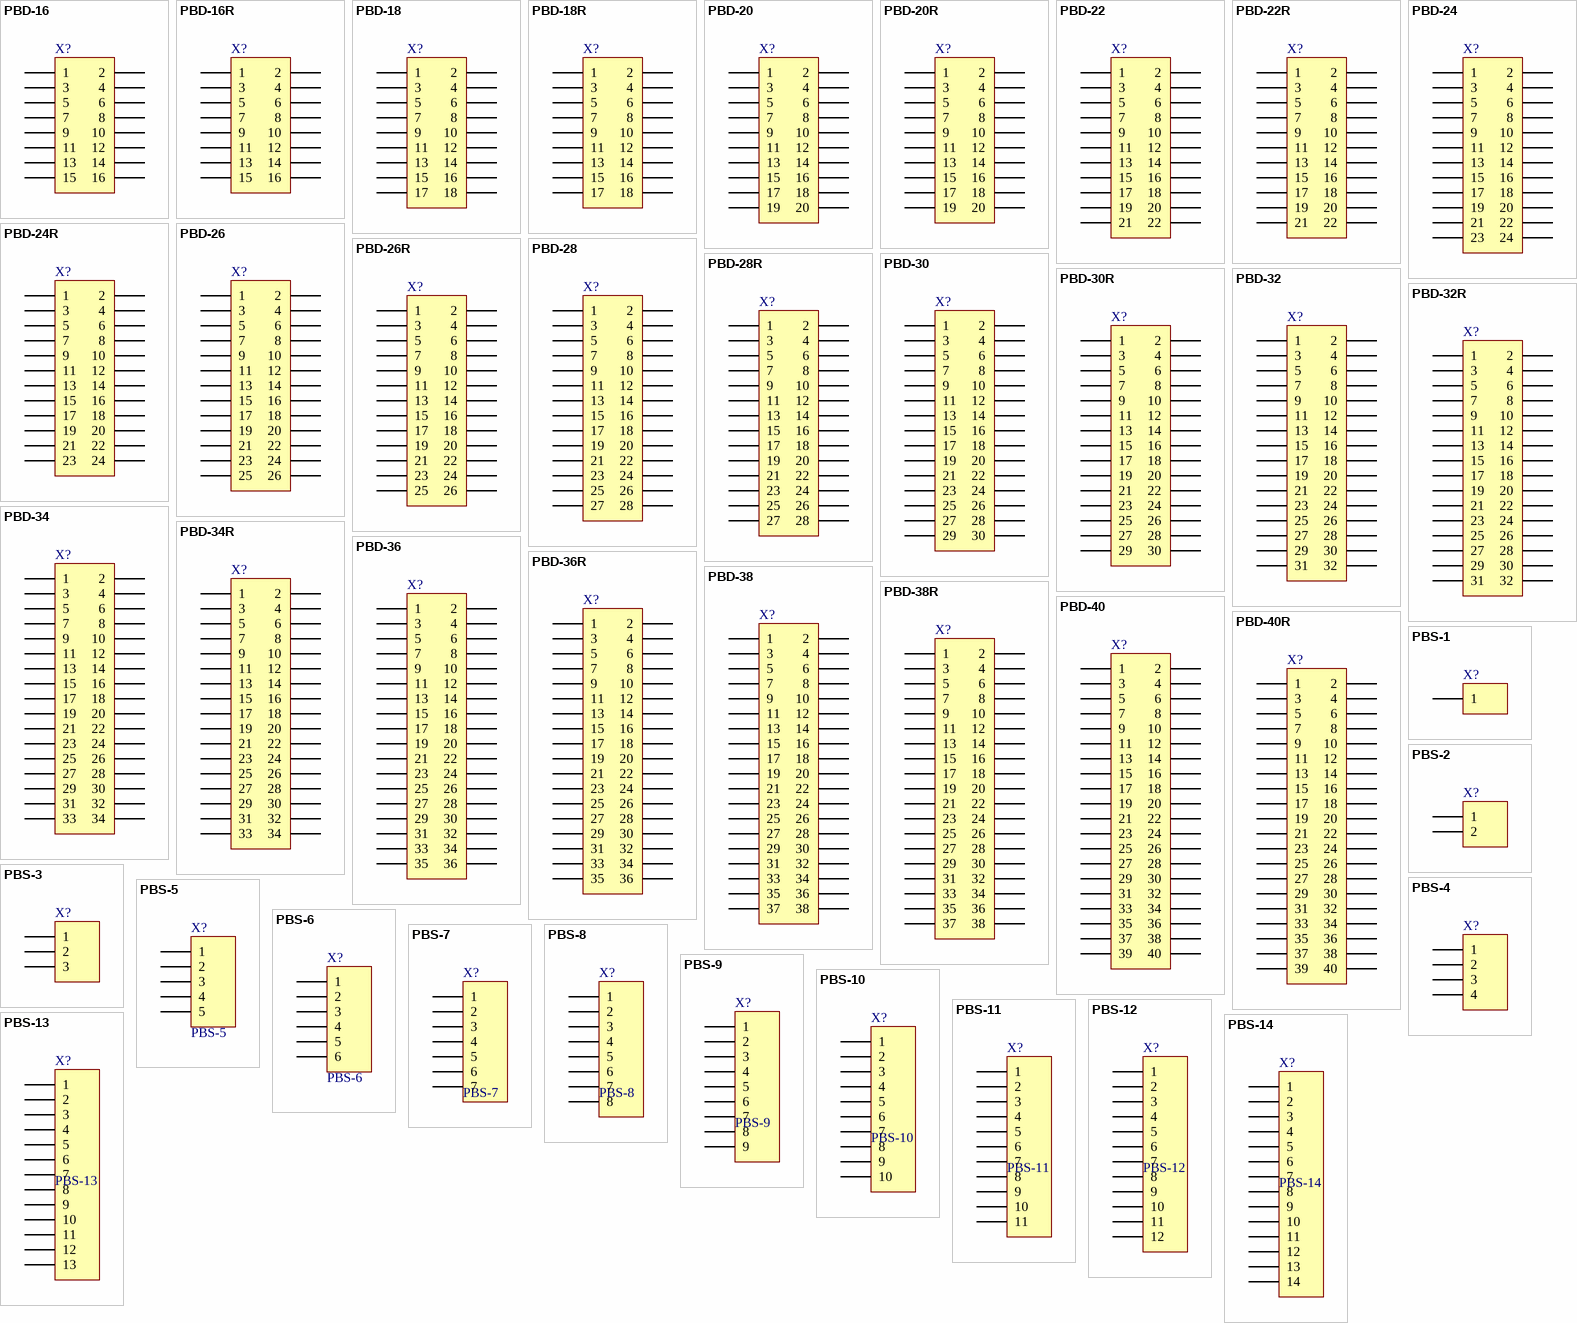
[diagram p3: symbols PBD-16 to PBS-14]

## PBD-16
designator X?  (value not drawn)
Header, 8-Pin, Dual row; LatestRevisionDate: 17-Jul-2002; LatestRevisionNote: Re-released for DXP Platform.; Publisher: Altium Limited
footprint PBD-16-3D (Connector; Header; 8x2 Position)
footprint PXD-16 (Connector; Header; 8x2 Position)
pins: 1, 2, 3, 4, 5, 6, 7, 8, 9, 10, 11, 12, 13, 14, 15, 16

## PBD-16R
designator X?  (value not drawn)
Header, 8-Pin, Dual row; LatestRevisionDate: 17-Jul-2002; LatestRevisionNote: Re-released for DXP Platform.; Publisher: Altium Limited
footprint PBD-16RR (Connector; Header; 8x2 Position)
footprint PBD-16RL (Connector; Header; 8x2 Position)
pins: 1, 2, 3, 4, 5, 6, 7, 8, 9, 10, 11, 12, 13, 14, 15, 16

## PBD-18
designator X?  (value not drawn)
Header, 9-Pin, Dual row; LatestRevisionDate: 17-Jul-2002; LatestRevisionNote: Re-released for DXP Platform.; Publisher: Altium Limited
footprint PBD-18-3D (Connector; Header; 9x2 Position)
footprint PXD-18 (Connector; Header; 9x2 Position)
pins: 1, 2, 3, 4, 5, 6, 7, 8, 9, 10, 11, 12, 13, 14, 15, 16, 17, 18

## PBD-18R
designator X?  (value not drawn)
Header, 9-Pin, Dual row; LatestRevisionDate: 17-Jul-2002; LatestRevisionNote: Re-released for DXP Platform.; Publisher: Altium Limited
footprint PBD-18RR (Connector; Header; 9x2 Position)
footprint PBD-18RL (Connector; Header; 9x2 Position)
pins: 1, 2, 3, 4, 5, 6, 7, 8, 9, 10, 11, 12, 13, 14, 15, 16, 17, 18

## PBD-20
designator X?  (value not drawn)
Header, 10-Pin, Dual row; LatestRevisionDate: 17-Jul-2002; LatestRevisionNote: Re-released for DXP Platform.; Publisher: Altium Limited
footprint PBD-20-3D (Connector; Header; 10x2 Position)
footprint PXD-20 (Connector; Header; 10x2 Position)
pins: 1, 2, 3, 4, 5, 6, 7, 8, 9, 10, 11, 12, 13, 14, 15, 16, 17, 18, 19, 20

## PBD-20R
designator X?  (value not drawn)
Header, 10-Pin, Dual row; LatestRevisionDate: 17-Jul-2002; LatestRevisionNote: Re-released for DXP Platform.; Publisher: Altium Limited
footprint PBD-20RR (Connector; Header; 10x2 Position)
footprint PBD-20RL (Connector; Header; 10x2 Position)
pins: 1, 2, 3, 4, 5, 6, 7, 8, 9, 10, 11, 12, 13, 14, 15, 16, 17, 18, 19, 20

## PBD-22
designator X?  (value not drawn)
Header, 11-Pin, Dual row; LatestRevisionDate: 17-Jul-2002; LatestRevisionNote: Re-released for DXP Platform.; Publisher: Altium Limited
footprint PBD-22-3D (Connector; Header; 11x2 Position)
footprint PXD-22 (Connector; Header; 11x2 Position)
pins: 1, 2, 3, 4, 5, 6, 7, 8, 9, 10, 11, 12, 13, 14, 15, 16, 17, 18, 19, 20, 21, 22

## PBD-22R
designator X?  (value not drawn)
Header, 11-Pin, Dual row; LatestRevisionDate: 17-Jul-2002; LatestRevisionNote: Re-released for DXP Platform.; Publisher: Altium Limited
footprint PBD-22RR (Connector; Header; 11x2 Position)
footprint PBD-22RL (Connector; Header; 11x2 Position)
pins: 1, 2, 3, 4, 5, 6, 7, 8, 9, 10, 11, 12, 13, 14, 15, 16, 17, 18, 19, 20, 21, 22

## PBD-24
designator X?  (value not drawn)
Header, 12-Pin, Dual row; LatestRevisionDate: 17-Jul-2002; LatestRevisionNote: Re-released for DXP Platform.; Publisher: Altium Limited
footprint PBD-24-3D (Connector; Header; 12x2 Position)
footprint PXD-24 (Connector; Header; 12x2 Position)
pins: 1, 2, 3, 4, 5, 6, 7, 8, 9, 10, 11, 12, 13, 14, 15, 16, 17, 18, 19, 20, 21, 22, 23, 24

## PBD-24R
designator X?  (value not drawn)
Header, 12-Pin, Dual row; LatestRevisionDate: 17-Jul-2002; LatestRevisionNote: Re-released for DXP Platform.; Publisher: Altium Limited
footprint PBD-24RR (Connector; Header; 12x2 Position)
footprint PBD-24RL (Connector; Header; 12x2 Position)
pins: 1, 2, 3, 4, 5, 6, 7, 8, 9, 10, 11, 12, 13, 14, 15, 16, 17, 18, 19, 20, 21, 22, 23, 24

## PBD-26
designator X?  (value not drawn)
Header, 13-Pin, Dual row; LatestRevisionDate: 17-Jul-2002; LatestRevisionNote: Re-released for DXP Platform.; Publisher: Altium Limited
footprint PBD-26-3D (Connector; Header; 13x2 Position)
footprint PXD-26 (Connector; Header; 13x2 Position)
pins: 1, 2, 3, 4, 5, 6, 7, 8, 9, 10, 11, 12, 13, 14, 15, 16, 17, 18, 19, 20, 21, 22, 23, 24, 25, 26

## PBD-26R
designator X?  (value not drawn)
Header, 13-Pin, Dual row; LatestRevisionDate: 17-Jul-2002; LatestRevisionNote: Re-released for DXP Platform.; Publisher: Altium Limited
footprint PBD-26RR (Connector; Header; 13x2 Position)
footprint PBD-26RL (Connector; Header; 13x2 Position)
pins: 1, 2, 3, 4, 5, 6, 7, 8, 9, 10, 11, 12, 13, 14, 15, 16, 17, 18, 19, 20, 21, 22, 23, 24, 25, 26

## PBD-28
designator X?  (value not drawn)
Header, 14-Pin, Dual row; LatestRevisionDate: 17-Jul-2002; LatestRevisionNote: Re-released for DXP Platform.; Publisher: Altium Limited
footprint PBD-28-3D (Connector; Header; 14x2 Position)
footprint PXD-28 (Connector; Header; 14x2 Position)
pins: 1, 2, 3, 4, 5, 6, 7, 8, 9, 10, 11, 12, 13, 14, 15, 16, 17, 18, 19, 20, 21, 22, 23, 24, 25, 26, 27, 28

## PBD-28R
designator X?  (value not drawn)
Header, 14-Pin, Dual row; LatestRevisionDate: 17-Jul-2002; LatestRevisionNote: Re-released for DXP Platform.; Publisher: Altium Limited
footprint PBD-28RR (Connector; Header; 14x2 Position)
footprint PBD-28RL (Connector; Header; 14x2 Position)
pins: 1, 2, 3, 4, 5, 6, 7, 8, 9, 10, 11, 12, 13, 14, 15, 16, 17, 18, 19, 20, 21, 22, 23, 24, 25, 26, 27, 28

## PBD-30
designator X?  (value not drawn)
Header, 15-Pin, Dual row; LatestRevisionDate: 17-Jul-2002; LatestRevisionNote: Re-released for DXP Platform.; Publisher: Altium Limited
footprint PBD-30-3D (Connector; Header; 15x2 Position)
footprint PXD-30 (Connector; Header; 15x2 Position)
pins: 1, 2, 3, 4, 5, 6, 7, 8, 9, 10, 11, 12, 13, 14, 15, 16, 17, 18, 19, 20, 21, 22, 23, 24, 25, 26, 27, 28, 29, 30

## PBD-30R
designator X?  (value not drawn)
Header, 15-Pin, Dual row; LatestRevisionDate: 17-Jul-2002; LatestRevisionNote: Re-released for DXP Platform.; Publisher: Altium Limited
footprint PBD-30RR (Connector; Header; 15x2 Position)
footprint PBD-30RL (Connector; Header; 15x2 Position)
pins: 1, 2, 3, 4, 5, 6, 7, 8, 9, 10, 11, 12, 13, 14, 15, 16, 17, 18, 19, 20, 21, 22, 23, 24, 25, 26, 27, 28, 29, 30

## PBD-32
designator X?  (value not drawn)
Header, 16-Pin, Dual row; LatestRevisionDate: 17-Jul-2002; LatestRevisionNote: Re-released for DXP Platform.; Publisher: Altium Limited
footprint PBD-32-3D (Connector; Header; 16x2 Position)
footprint PXD-32 (Connector; Header; 16x2 Position)
pins: 1, 2, 3, 4, 5, 6, 7, 8, 9, 10, 11, 12, 13, 14, 15, 16, 17, 18, 19, 20, 21, 22, 23, 24, 25, 26, 27, 28, 29, 30, 31, 32

## PBD-32R
designator X?  (value not drawn)
Header, 16-Pin, Dual row; LatestRevisionDate: 17-Jul-2002; LatestRevisionNote: Re-released for DXP Platform.; Publisher: Altium Limited
footprint PBD-32RR (Connector; Header; 16x2 Position)
footprint PBD-32RL (Connector; Header; 16x2 Position)
pins: 1, 2, 3, 4, 5, 6, 7, 8, 9, 10, 11, 12, 13, 14, 15, 16, 17, 18, 19, 20, 21, 22, 23, 24, 25, 26, 27, 28, 29, 30, 31, 32

## PBD-34
designator X?  (value not drawn)
Header, 17-Pin, Dual row; LatestRevisionDate: 17-Jul-2002; LatestRevisionNote: Re-released for DXP Platform.; Publisher: Altium Limited
footprint PBD-34-3D (Connector; Header; 17x2 Position)
footprint PXD-34 (Connector; Header; 17x2 Position)
pins: 1, 2, 3, 4, 5, 6, 7, 8, 9, 10, 11, 12, 13, 14, 15, 16, 17, 18, 19, 20, 21, 22, 23, 24, 25, 26, 27, 28, 29, 30, 31, 32, 33, 34

## PBD-34R
designator X?  (value not drawn)
Header, 17-Pin, Dual row; LatestRevisionDate: 17-Jul-2002; LatestRevisionNote: Re-released for DXP Platform.; Publisher: Altium Limited
footprint PBD-34RR (Connector; Header; 17x2 Position)
footprint PBD-34RL (Connector; Header; 17x2 Position)
pins: 1, 2, 3, 4, 5, 6, 7, 8, 9, 10, 11, 12, 13, 14, 15, 16, 17, 18, 19, 20, 21, 22, 23, 24, 25, 26, 27, 28, 29, 30, 31, 32, 33, 34

## PBD-36
designator X?  (value not drawn)
Header, 18-Pin, Dual row; LatestRevisionDate: 17-Jul-2002; LatestRevisionNote: Re-released for DXP Platform.; Publisher: Altium Limited
footprint PBD-36-3D (Connector; Header; 18x2 Position)
footprint PXD-36 (Connector; Header; 18x2 Position)
pins: 1, 2, 3, 4, 5, 6, 7, 8, 9, 10, 11, 12, 13, 14, 15, 16, 17, 18, 19, 20, 21, 22, 23, 24, 25, 26, 27, 28, 29, 30, 31, 32, 33, 34, 35, 36

## PBD-36R
designator X?  (value not drawn)
Header, 18-Pin, Dual row; LatestRevisionDate: 17-Jul-2002; LatestRevisionNote: Re-released for DXP Platform.; Publisher: Altium Limited
footprint PBD-36RR (Connector; Header; 18x2 Position)
footprint PBD-36RL (Connector; Header; 18x2 Position)
pins: 1, 2, 3, 4, 5, 6, 7, 8, 9, 10, 11, 12, 13, 14, 15, 16, 17, 18, 19, 20, 21, 22, 23, 24, 25, 26, 27, 28, 29, 30, 31, 32, 33, 34, 35, 36

## PBD-38
designator X?  (value not drawn)
Header, 19-Pin, Dual row; LatestRevisionDate: 17-Jul-2002; LatestRevisionNote: Re-released for DXP Platform.; Publisher: Altium Limited
footprint PBD-38-3D (Connector; Header; 19x2 Position)
footprint PXD-38 (Connector; Header; 19x2 Position)
pins: 1, 2, 3, 4, 5, 6, 7, 8, 9, 10, 11, 12, 13, 14, 15, 16, 17, 18, 19, 20, 21, 22, 23, 24, 25, 26, 27, 28, 29, 30, 31, 32, 33, 34, 35, 36, 37, 38

## PBD-38R
designator X?  (value not drawn)
Header, 19-Pin, Dual row; LatestRevisionDate: 17-Jul-2002; LatestRevisionNote: Re-released for DXP Platform.; Publisher: Altium Limited
footprint PBD-38RR (Connector; Header; 19x2 Position)
footprint PBD-38RL (Connector; Header; 19x2 Position)
pins: 1, 2, 3, 4, 5, 6, 7, 8, 9, 10, 11, 12, 13, 14, 15, 16, 17, 18, 19, 20, 21, 22, 23, 24, 25, 26, 27, 28, 29, 30, 31, 32, 33, 34, 35, 36, 37, 38

## PBD-40
designator X?  (value not drawn)
Header, 20-Pin, Dual row; LatestRevisionDate: 17-Jul-2002; LatestRevisionNote: Re-released for DXP Platform.; Publisher: Altium Limited
footprint PBD-40-3D (Connector; Header; 20x2 Position)
footprint PXD-40 (Connector; Header; 20x2 Position)
pins: 1, 2, 3, 4, 5, 6, 7, 8, 9, 10, 11, 12, 13, 14, 15, 16, 17, 18, 19, 20, 21, 22, 23, 24, 25, 26, 27, 28, 29, 30, 31, 32, 33, 34, 35, 36, 37, 38, 39, 40

## PBD-40R
designator X?  (value not drawn)
Header, 20-Pin, Dual row; LatestRevisionDate: 17-Jul-2002; LatestRevisionNote: Re-released for DXP Platform.; Publisher: Altium Limited
footprint PBD-40RR (Connector; Header; 20x2 Position)
footprint PBD-40RL (Connector; Header; 20x2 Position)
pins: 1, 2, 3, 4, 5, 6, 7, 8, 9, 10, 11, 12, 13, 14, 15, 16, 17, 18, 19, 20, 21, 22, 23, 24, 25, 26, 27, 28, 29, 30, 31, 32, 33, 34, 35, 36, 37, 38, 39, 40

## PBS-1
designator X?  (value not drawn)
Header, 1-Pin; LatestRevisionDate: 17-Jul-2002; LatestRevisionNote: Re-released for DXP Platform.; Publisher: Altium Limited
footprint PXS-1 (Connector; Header; 1 Position)
footprint PBS-1-3D (Connector; Header; 1 Position)
pins: 1

## PBS-2
designator X?  (value not drawn)
Header, 2-Pin; LatestRevisionDate: 17-Jul-2002; LatestRevisionNote: Re-released for DXP Platform.; Publisher: Altium Limited
footprint PXS-2 (Connector; Header; 2 Position)
footprint PBS-2-3D (Connector; Header; 2 Position)
pins: 1, 2

## PBS-3
designator X?  (value not drawn)
Header, 3-Pin; LatestRevisionDate: 17-Jul-2002; LatestRevisionNote: Re-released for DXP Platform.; Publisher: Altium Limited
footprint PBS-3-3D (Connector; Header; 3 Position)
footprint PXS-3 (Connector; Header; 3 Position)
pins: 1, 2, 3

## PBS-4
designator X?  (value not drawn)
Header, 4-Pin; LatestRevisionDate: 17-Jul-2002; LatestRevisionNote: Re-released for DXP Platform.; Publisher: Altium Limited
footprint PBS-4-3D (Connector; Header; 4 Position)
footprint PXS-4 (Connector; Header; 4 Position)
pins: 1, 2, 3, 4

## PBS-5
designator X?
Header, 5-Pin; LatestRevisionDate: 17-Jul-2002; LatestRevisionNote: Re-released for DXP Platform.; Publisher: Altium Limited
footprint PXS-5 (Connector; Header; 5 Position)
footprint PBS-5-3D (Connector; Header; 5 Position)
pins: 1, 2, 3, 4, 5

## PBS-6
designator X?
Header, 6-Pin; LatestRevisionDate: 17-Jul-2002; LatestRevisionNote: Re-released for DXP Platform.; Publisher: Altium Limited
footprint PXS-6 (Connector; Header; 6 Position)
footprint PBS-6-3D (Connector; Header; 6 Position)
pins: 1, 2, 3, 4, 5, 6

## PBS-7
designator X?
Header, 7-Pin; LatestRevisionDate: 17-Jul-2002; LatestRevisionNote: Re-released for DXP Platform.; Publisher: Altium Limited
footprint PXS-7 (Connector; Header; 7 Position)
footprint PBS-7-3D (Connector; Header; 7 Position)
pins: 1, 2, 3, 4, 5, 6, 7

## PBS-8
designator X?
Header, 8-Pin; LatestRevisionDate: 17-Jul-2002; LatestRevisionNote: Re-released for DXP Platform.; Publisher: Altium Limited
footprint PXS-8 (Connector; Header; 8 Position)
footprint PBS-8-3D (Connector; Header; 8 Position)
pins: 1, 2, 3, 4, 5, 6, 7, 8

## PBS-9
designator X?
Header, 9-Pin; LatestRevisionDate: 17-Jul-2002; LatestRevisionNote: Re-released for DXP Platform.; Publisher: Altium Limited
footprint PXS-9 (Connector; Header; 9 Position)
footprint PBS-9-3D (Connector; Header; 9 Position)
pins: 1, 2, 3, 4, 5, 6, 7, 8, 9

## PBS-10
designator X?
Header, 10-Pin; LatestRevisionDate: 17-Jul-2002; LatestRevisionNote: Re-released for DXP Platform.; Publisher: Altium Limited
footprint PXS-10 (Connector; Header; 10 Position)
footprint PBS-10-3D (Connector; Header; 10 Position)
pins: 1, 2, 3, 4, 5, 6, 7, 8, 9, 10

## PBS-11
designator X?
Header, 11-Pin; LatestRevisionDate: 17-Jul-2002; LatestRevisionNote: Re-released for DXP Platform.; Publisher: Altium Limited
footprint PXS-11 (Connector; Header; 11 Position)
footprint PBS-11-3D (Connector; Header; 11 Position)
pins: 1, 2, 3, 4, 5, 6, 7, 8, 9, 10, 11

## PBS-12
designator X?
Header, 12-Pin; LatestRevisionDate: 17-Jul-2002; LatestRevisionNote: Re-released for DXP Platform.; Publisher: Altium Limited
footprint PXS-12 (Connector; Header; 12 Position)
footprint PBS-12-3D (Connector; Header; 12 Position)
pins: 1, 2, 3, 4, 5, 6, 7, 8, 9, 10, 11, 12